# Altium footprint library 5016.PcbLib: 1 footprints
Each footprint in its own frame and in the unit in brackets; x right, y up, seen from the top. Pads: shape width x height; smd on the part's side, far side on the other; paste and mask are expansions set on the pad; w line width, h text height; cw(c..) or ccw(c..) is an arc to the next point about the centre after c.
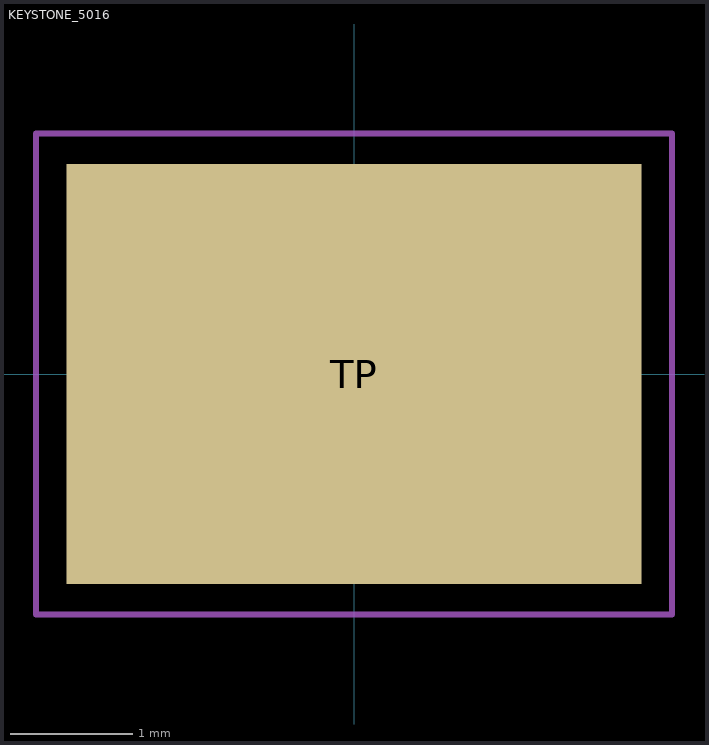
[diagram p0: the footprint, top view; thin cyan lines are the x and y axes]

## KEYSTONE_5016 [mm]
pads (1):
  rect 4.7x3.43 smd: TP(0,0)
Mechanical 13:
  lines w0.127: -1.905,-1.42 -1.905,1.42 1.905,1.42 1.905,-1.42 -1.905,-1.42
Mechanical 15:
  lines w0.05: -2.6,-1.965 2.6,-1.965 2.6,1.965 -2.6,1.965 -2.6,-1.965
3D body "step_temp.STEP": height 2.29, standoff 0, extent -1.905,-1.422 1.905,1.422